# Altium integrated library SparkFun-PowerSymbols.Library.IntLib: 29 symbols
Pins are listed as number, name and electrical type; pins without a type are passive.

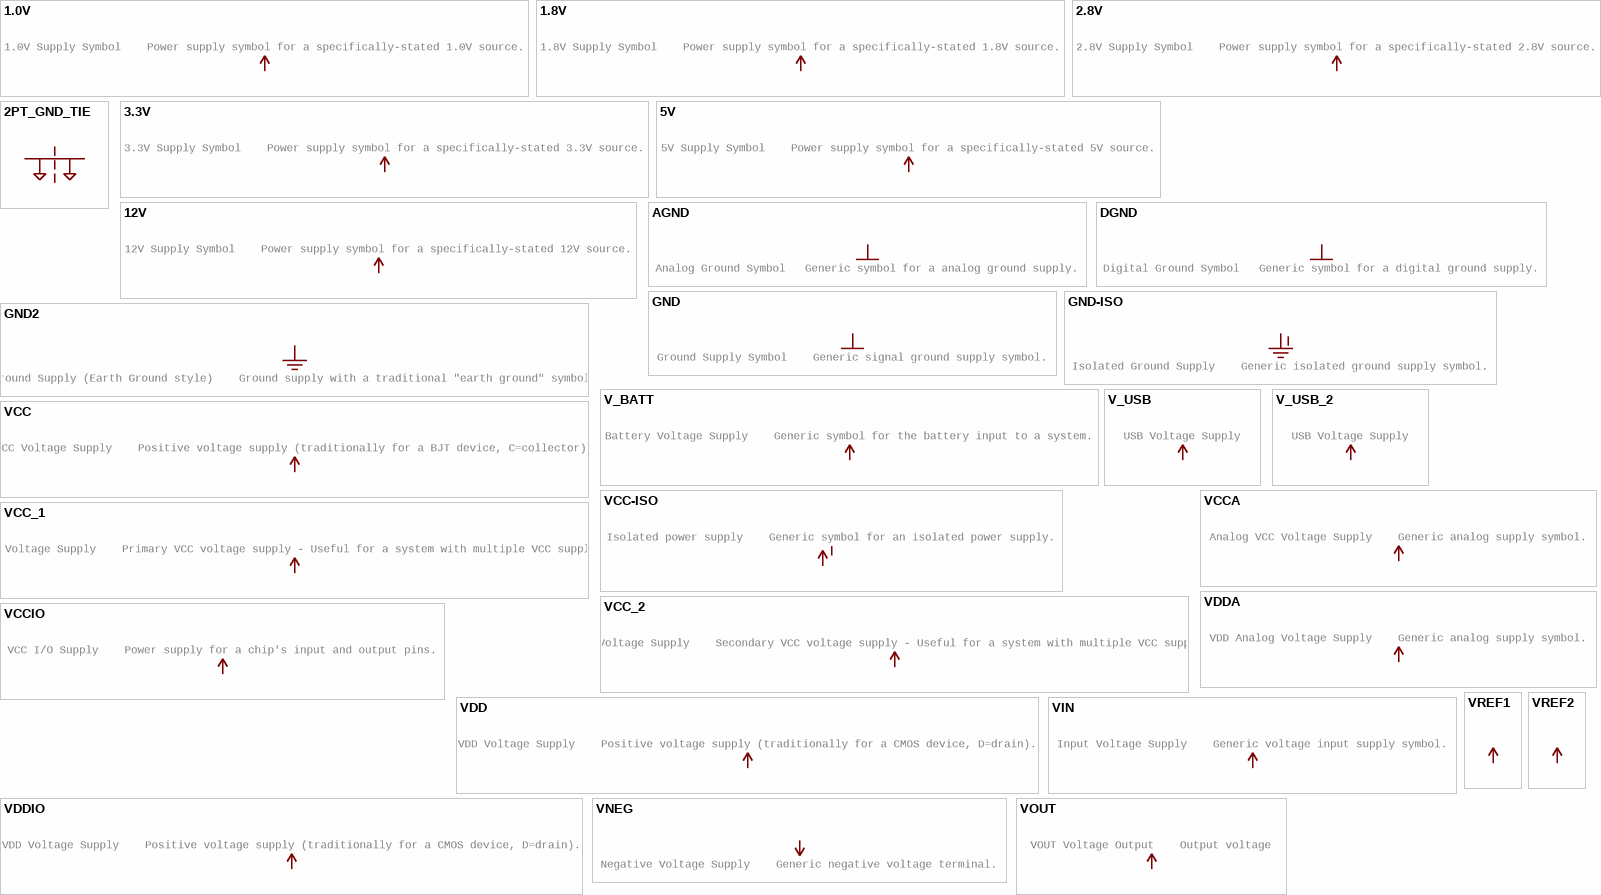
[diagram p0: symbols 1.0V to VREF2]

## 1.0V
designator SUPPLY?, comment 1.0V Supply Symbol    Power supply symbol for a specifically-stated 1.0V source.
GateName_1: G$1; SymbolName_1: 1.0V; LibraryName: SparkFun-PowerSymbols; DeviceSetName: 1.0V
pins: ?1 1.0V (power)

## 1.8V
designator SUPPLY?, comment 1.8V Supply Symbol    Power supply symbol for a specifically-stated 1.8V source.
GateName_1: G$1; SymbolName_1: 1.8V; LibraryName: SparkFun-PowerSymbols; DeviceSetName: 1.8V
pins: ?1 1.8V (power)

## 2.8V
designator SUPPLY?, comment 2.8V Supply Symbol    Power supply symbol for a specifically-stated 2.8V source.
GateName_1: G$1; SymbolName_1: 2.8V; LibraryName: SparkFun-PowerSymbols; DeviceSetName: 2.8V
pins: ?1 2.8V (power)

## 2PT_GND_TIE
designator SUPPLY?, comment Dual Ground Supply    Power supply symbol for connecting two grounds.   SparkFun Products:  SparkFun AutoDriver - Stepper Motor Driver  (value not drawn)
GateName_1: G$1; SymbolName_1: 2PT_GND_TIE; LibraryName: SparkFun-PowerSymbols; DeviceSetName: 2PT_GND_TIE; Package: 2PT_GND_TIE
footprint 2PT_GND_TIE
pins: P$1 (io), P$2 (io)

## 3.3V
designator SUPPLY?, comment 3.3V Supply Symbol    Power supply symbol for a specifically-stated 3.3V source.
GateName_1: G$1; SymbolName_1: 3.3V; LibraryName: SparkFun-PowerSymbols; DeviceSetName: 3.3V
pins: ?1 3.3V (power)

## 5V
designator SUPPLY?, comment 5V Supply Symbol    Power supply symbol for a specifically-stated 5V source.
GateName_1: G$1; SymbolName_1: 5V; LibraryName: SparkFun-PowerSymbols; DeviceSetName: 5V
pins: ?1 5V (power)

## 12V
designator SUPPLY?, comment 12V Supply Symbol    Power supply symbol for a specifically-stated 12V source.
GateName_1: G$1; SymbolName_1: 12V; LibraryName: SparkFun-PowerSymbols; DeviceSetName: 12V
pins: ?1 12V (power)

## AGND
designator ?, comment Analog Ground Symbol   Generic symbol for a analog ground supply.
GateName_1: G$1; SymbolName_1: AGND; LibraryName: SparkFun-PowerSymbols; DeviceSetName: AGND
pins: ?1 AGND (power)

## DGND
designator GND?, comment Digital Ground Symbol   Generic symbol for a digital ground supply.
GateName_1: G$1; SymbolName_1: DGND; LibraryName: SparkFun-PowerSymbols; DeviceSetName: DGND
pins: ?1 GND (power)

## GND
designator GND?, comment Ground Supply Symbol    Generic signal ground supply symbol.
GateName_1: 1; SymbolName_1: DGND; DeviceSetName: GND; LibraryName: SparkFun-PowerSymbols
pins: ?1 GND (power)

## GND2
designator GND?, comment Ground Supply (Earth Ground style)    Ground supply with a traditional "earth ground" symbol.
GateName_1: G$1; SymbolName_1: GND; DeviceSetName: GND2; LibraryName: SparkFun-PowerSymbols
pins: ?1 3.3V (power)

## GND-ISO
designator GND-ISO?, comment Isolated Ground Supply    Generic isolated ground supply symbol.
GateName_1: G$1; SymbolName_1: GND-ISO; LibraryName: SparkFun-PowerSymbols; DeviceSetName: GND-ISO
pins: ?1 GND-ISO (power)

## V_BATT
designator SUPPLY?, comment Battery Voltage Supply    Generic symbol for the battery input to a system.
GateName_1: G$1; SymbolName_1: V_BATT; LibraryName: SparkFun-PowerSymbols; DeviceSetName: V_BATT
pins: ?1 V_BATT (power)

## V_USB
designator SUPPLY?, comment USB Voltage Supply
GateName_1: G$1; SymbolName_1: V_USB; LibraryName: SparkFun-PowerSymbols; DeviceSetName: V_USB
pins: ?1 V_USB (power)

## V_USB_2
designator SUPPLY?, comment USB Voltage Supply
GateName_1: G$1; SymbolName_1: V_USB_2; LibraryName: SparkFun-PowerSymbols; DeviceSetName: V_USB_2
pins: ?1 V_USB_2 (power)

## VCC
designator SUPPLY?, comment VCC Voltage Supply    Positive voltage supply (traditionally for a BJT device, C=collector).
GateName_1: G$1; SymbolName_1: VCC; LibraryName: SparkFun-PowerSymbols; DeviceSetName: VCC
pins: ?1 VCC (power)

## VCC-ISO
designator ?, comment Isolated power supply    Generic symbol for an isolated power supply.
GateName_1: G$1; SymbolName_1: VCC-ISO; LibraryName: SparkFun-PowerSymbols; DeviceSetName: VCC-ISO
pins: ?1 VCC-ISO (power)

## VCC_1
designator SUPPLY?, comment VCC1 Voltage Supply    Primary VCC voltage supply - Useful for a system with multiple VCC supplies.
GateName_1: G$2; SymbolName_1: VCC_1; LibraryName: SparkFun-PowerSymbols; DeviceSetName: VCC_1
pins: ?1 VCC_1 (power)

## VCC_2
designator SUPPLY?, comment VCC2 Voltage Supply    Secondary VCC voltage supply - Useful for a system with multiple VCC supplies.
GateName_1: G$1; SymbolName_1: VCC_2; LibraryName: SparkFun-PowerSymbols; DeviceSetName: VCC_2
pins: ?1 VCC_2 (power)

## VCCA
designator ?, comment Analog VCC Voltage Supply    Generic analog supply symbol.
GateName_1: G$1; SymbolName_1: VCCA; LibraryName: SparkFun-PowerSymbols; DeviceSetName: VCCA
pins: ?1 VCCA (power)

## VCCIO
designator SUPPLY?, comment VCC I/O Supply    Power supply for a chip's input and output pins.
GateName_1: G$1; SymbolName_1: VCCIO; LibraryName: SparkFun-PowerSymbols; DeviceSetName: VCCIO
pins: ?1 VCCIO (power)

## VDD
designator SUPPLY?, comment VDD Voltage Supply    Positive voltage supply (traditionally for a CMOS device, D=drain).
GateName_1: VDD; SymbolName_1: VDD; LibraryName: SparkFun-PowerSymbols; DeviceSetName: VDD
pins: ?1 VDD (power)

## VDDA
designator SUPPLY?, comment VDD Analog Voltage Supply    Generic analog supply symbol.
GateName_1: G$1; SymbolName_1: VDDA; LibraryName: SparkFun-PowerSymbols; DeviceSetName: VDDA
pins: ?1 VDDA (power)

## VDDIO
designator SUPPLY?, comment VDD Voltage Supply    Positive voltage supply (traditionally for a CMOS device, D=drain).
GateName_1: G$1; SymbolName_1: VDDIO; LibraryName: SparkFun-PowerSymbols; DeviceSetName: VDDIO
pins: ?1 VDDIO (power)

## VIN
designator SUPPLY?, comment Input Voltage Supply    Generic voltage input supply symbol.
GateName_1: G$1; SymbolName_1: VIN; LibraryName: SparkFun-PowerSymbols; DeviceSetName: VIN
pins: ?1 VIN (power)

## VNEG
designator SUPPLY?, comment Negative Voltage Supply    Generic negative voltage terminal.
GateName_1: G$2; SymbolName_1: VNEG; LibraryName: SparkFun-PowerSymbols; DeviceSetName: VNEG
pins: ?1 VNEG (power)

## VOUT
designator SUPPLY?, comment VOUT Voltage Output    Output voltage
GateName_1: G$1; SymbolName_1: VOUT; LibraryName: SparkFun-PowerSymbols; DeviceSetName: VOUT
pins: ?1 VOUT (power)

## VREF1
designator SUPPLY?
GateName_1: G$1; SymbolName_1: VREF1; LibraryName: SparkFun-PowerSymbols; DeviceSetName: VREF1
pins: ?1 VREF1 (power)

## VREF2
designator SUPPLY?
GateName_1: G$1; SymbolName_1: VREF2; LibraryName: SparkFun-PowerSymbols; DeviceSetName: VREF2
pins: ?1 VREF2 (power)